# EAGLE library part AD9826 (library 1_spektrak)
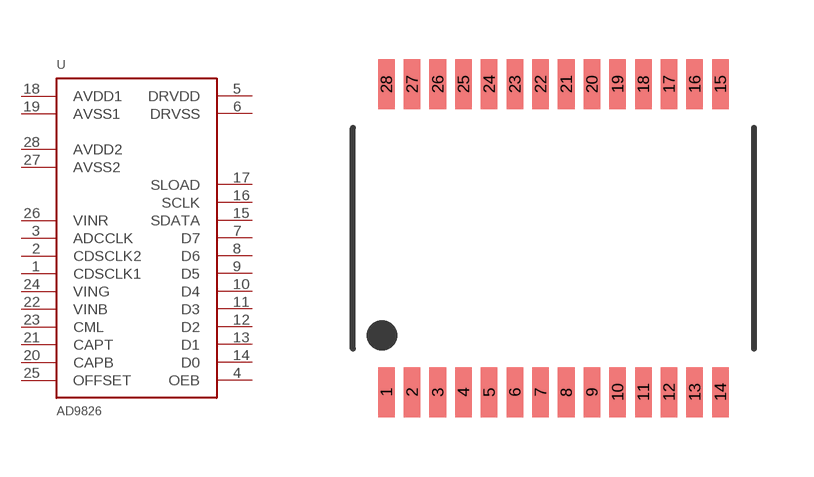
[diagram p2: symbol with the pads of ADC_28SSOP; footprint ADC_28SSOP]

Designator prefix U

## AD9826  [ADC_28SSOP]
1  CDSCLK1  in
2  CDSCLK2  in
3  ADCCLK  in
4  OEB  in
5  DRVDD  pwr
6  DRVSS  pwr
7  D7  out
8  D6  out
9  D5  out
10  D4  out
11  D3  out
12  D2  out
13  D1  out
14  D0  out
15  SDATA
16  SCLK  in
17  SLOAD  in
18  AVDD1  pwr
19  AVSS1  pwr
20  CAPB  in
21  CAPT  in
22  VINB  in
23  CML  in
24  VING  in
25  OFFSET  in
26  VINR  in
27  AVSS2  pwr
28  AVDD2  pwr

## Footprint ADC_28SSOP (pad centres in mm)
smd 0.419 x 1.27: 1 -4.229,-3.899; 2 -3.579,-3.899; 3 -2.929,-3.899; 4 -2.278,-3.899; 5 -1.628,-3.899; 6 -0.978,-3.899; 7 -0.328,-3.899; 8 0.323,-3.899; 9 0.973,-3.899; 10 1.623,-3.899; 11 2.273,-3.899; 12 2.924,-3.899; 13 3.574,-3.899; 14 4.224,-3.899; 15 4.224,3.904; 16 3.574,3.904; 17 2.924,3.904; 18 2.273,3.904; 19 1.623,3.904; 20 0.973,3.904; 21 0.323,3.904; 22 -0.328,3.904; 23 -0.978,3.904; 24 -1.628,3.904; 25 -2.278,3.904; 26 -2.929,3.904; 27 -3.579,3.904; 28 -4.229,3.904